# Altium footprint library KA4909-AL.PcbLib: 1 footprints
Each footprint in its own frame and in the unit in brackets; x right, y up, seen from the top. Pads: shape width x height; smd on the part's side, far side on the other; paste and mask are expansions set on the pad; w line width, h text height; cw(c..) or ccw(c..) is an arc to the next point about the centre after c.
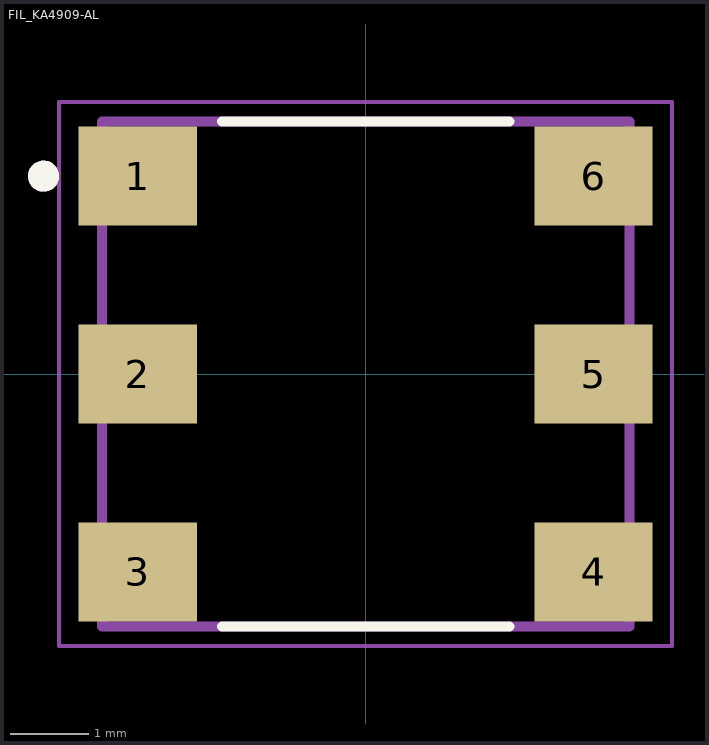
[diagram p0: the footprint, top view; thin cyan lines are the x and y axes]

## FIL_KA4909-AL [mm]
pads (6):
  rect 1.52x1.27 smd: 1(-2.925,2.54) 2(-2.925,0) 3(-2.925,-2.54) 4(2.925,-2.54) 5(2.925,0) 6(2.925,2.54)
Top Overlay:
  circle w0.2: c-4.135,2.54 r0.1
  lines w0.127: -1.845,-3.24 1.845,-3.24 ; -1.845,3.24 1.845,3.24
Mechanical 13:
  circle w0.2: c-4.135,2.54 r0.1
  lines w0.127: -3.385,-3.24 -3.385,3.24 3.385,3.24 3.385,-3.24 -3.385,-3.24
Mechanical 15:
  lines w0.05: -3.935,-3.49 -3.935,3.49 3.935,3.49 3.935,-3.49 -3.935,-3.49
3D body "step_temp.STEP": height 4.65, standoff 0, extent -3.594,-3.251 3.594,3.251